# Altium footprint library KeyboardSwitchModule.PcbLib: 1 footprints
Each footprint in its own frame and in the unit in brackets; x right, y up, seen from the top. Pads: shape width x height; smd on the part's side, far side on the other; paste and mask are expansions set on the pad; w line width, h text height; cw(c..) or ccw(c..) is an arc to the next point about the centre after c.
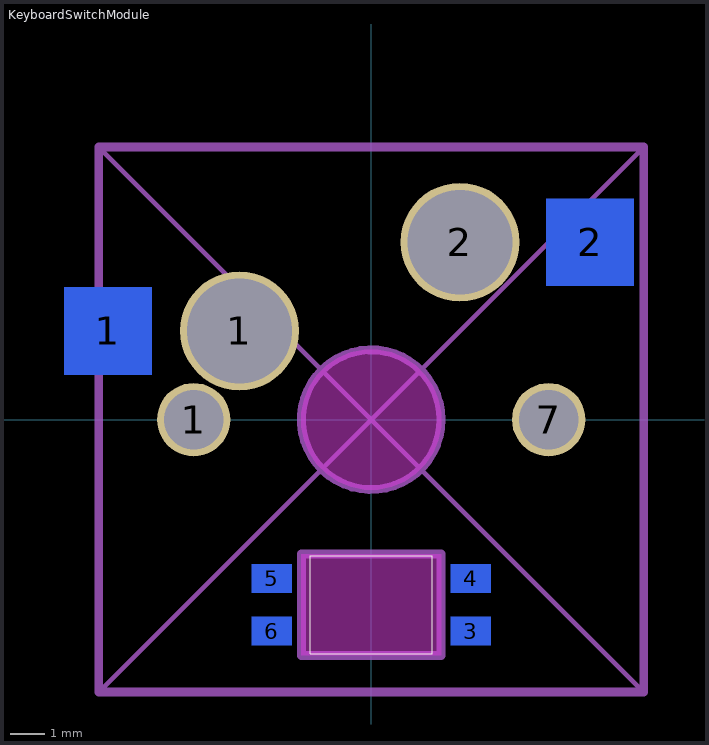
[diagram p0: the footprint, top view; thin cyan lines are the x and y axes]

## KeyboardSwitchModule [mm]
pads (10):
  rect 2.5x2.5 smd far side: 1(-7.535,2.54) 2(6.265,5.08)
  round 2.1 hole 1.702: 1(-5.08,0) 7(5.08,0)
  round 3.4 hole 3: 1(-3.77,2.54) 2(2.54,5.08)
  rect 1.15x0.82 smd far side: 3(2.85,-6.05) 4(2.85,-4.55) 5(-2.85,-4.55) 6(-2.85,-6.05)
Top Overlay:
  lines w0.025: -1.75,-6.7 1.75,-6.7 1.75,-3.9 -1.75,-3.9 -1.75,-6.7
Bottom Overlay:
  circle w0.254: c1.905,-7.112 r0.065
Keep-Out Layer:
  board cut-out: -2,-6.75 -2,-3.85 2,-3.85 2,-6.75
  board cut-out: 0,-2 -0.197,-2 -0.583,-1.923 -0.947,-1.772 -1.275,-1.554 -1.554,-1.275 -1.772,-0.947 -1.923,-0.583 -2,-0.197 -2,0 -2,0.197 -1.923,0.583 -1.772,0.947 -1.554,1.275 -1.275,1.554 -0.947,1.772 -0.583,1.923 -0.197,2 0,2 0.197,2 0.583,1.923 0.947,1.772 1.275,1.554 1.554,1.275 1.772,0.947 1.923,0.583 2,0.197 2,0 2,-0.197 1.923,-0.583 1.772,-0.947 1.554,-1.275 1.275,-1.554 0.947,-1.772 0.583,-1.923 0.197,-2
Mechanical 1:
  circle w0.254: c0,0 r2
  lines w0.254: -2,-6.75 2,-6.75 2,-3.85 -2,-3.85 -2,-6.75
Mechanical 13:
  lines w0.127: -7.8,-7.8 7.8,7.8 ; -7.8,7.8 7.8,-7.8
  lines w0.254: -7.8,-7.8 7.8,-7.8 7.8,7.8 -7.8,7.8 -7.8,-7.8
3D body "LED_3528-4pin.STEP": height -0.05, standoff -1.95, extent -1.75,-6.7 1.75,-3.9
3D body "凯?": height 15.75, standoff -3.45, extent -7.8,-7.8 7.8,7.8